# Altium footprint library HDR6_F.PcbLib: 1 footprints
Each footprint in its own frame and in the unit in brackets; x right, y up, seen from the top. Pads: shape width x height; smd on the part's side, far side on the other; paste and mask are expansions set on the pad; w line width, h text height; cw(c..) or ccw(c..) is an arc to the next point about the centre after c.
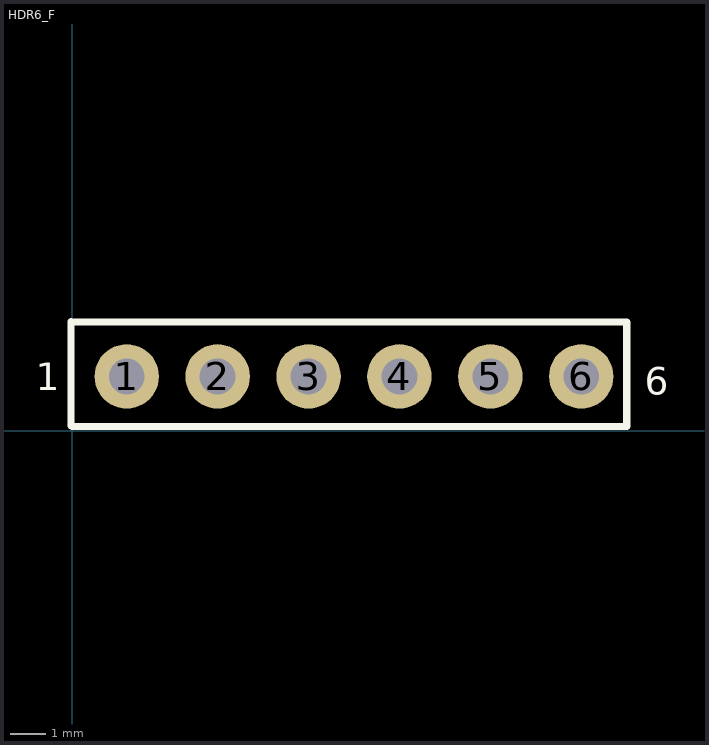
[diagram p0: the footprint, top view; thin cyan lines are the x and y axes]

## HDR6_F [mm]
pads (6):
  round 1.8 hole 1: 1(1.524,1.524) 2(4.064,1.524) 3(6.604,1.524) 4(9.144,1.524) 5(11.684,1.524) 6(14.224,1.524)
Top Overlay:
  lines w0.2: -0.037,0.136 -0.037,3.057 ; 0,0.127 15.494,0.127 15.494,3.048 0,3.048
  text "1" at -1.016,1.143 h0.76
  text "6" at 16.002,1.016 h0.76
3D body "Pin Header 1x6 TH Pitch 2.54mm.stp": height 9.5, standoff -3.2, extent 0.099,0.315 15.339,2.855